# Altium footprint library CGA5L1X7R1E475K160AC.PcbLib: 1 footprints
Each footprint in its own frame and in the unit in brackets; x right, y up, seen from the top. Pads: shape width x height; smd on the part's side, far side on the other; paste and mask are expansions set on the pad; w line width, h text height; cw(c..) or ccw(c..) is an arc to the next point about the centre after c.
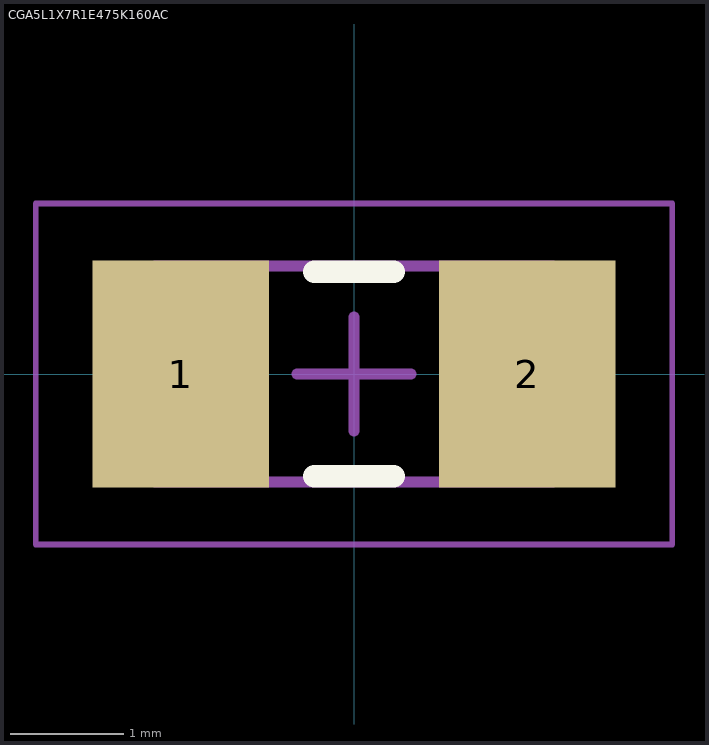
[diagram p0: the footprint, top view; thin cyan lines are the x and y axes]

## CGA5L1X7R1E475K160AC [mm] "Low-Density IPC Chip Capacitor 4.7uF 25V 1206"
height 1.9
pads (2):
  rect 1.55x2 smd: 1(-1.525,0) 2(1.525,0)
Top Overlay:
  lines w0.2: -0.35,-0.9 0.35,-0.9 ; -0.35,0.9 0.35,0.9
Mechanical 13:
  lines w0.1: -1.75,-0.95 1.75,-0.95 1.75,0.95 -1.75,0.95 -1.75,-0.95
Mechanical 15:
  lines w0.05: -2.8,-1.5 2.8,-1.5 2.8,1.5 -2.8,1.5 -2.8,-1.5
  lines w0.1: -0.5,0 0.5,0 ; 0,-0.5 0,0.5
3D body "CGA5L1X7R1E475K160AC.step": height 1.9, standoff 0, extent -1.75,-0.95 1.75,0.95